# EAGLE library part TYCO_8PIN_1MM_SMD (library FPCConnectors)
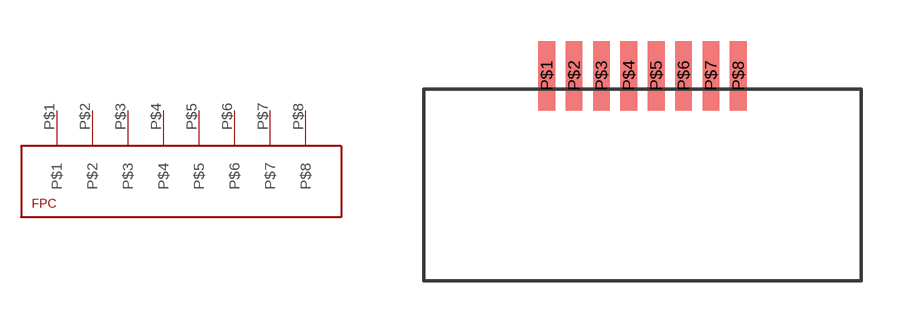
[diagram p0: symbol with the pads of TYCO_1MM_8PIN; footprint TYCO_1MM_8PIN]

Designator prefix -

## TYCO_8PIN_1MM_SMD  [TYCO_1MM_8PIN]
P$1  P$1
P$2  P$2
P$3  P$3
P$4  P$4
P$5  P$5
P$6  P$6
P$7  P$7
P$8  P$8

## Footprint TYCO_1MM_8PIN (pad centres in mm)
smd 0.61 x 2.54: P$1 -3.5,4.5; P$2 -2.5,4.5; P$3 -1.5,4.5; P$4 -0.5,4.5; P$5 0.5,4.5; P$6 1.5,4.5; P$7 2.5,4.5; P$8 3.5,4.5